# Altium integrated library lib_coilcraft.IntLib: 2 symbols
Pins are listed as number, name and electrical type; pins without a type are passive.

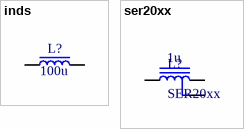
[diagram p0: symbols inds to ser20xx]

## inds
designator L?  value 100u  (hidden comment: *)
Inductor
footprint INDP120120X60N (Precision Wire Wound Inductor, 2-Leads, Body 12,00x12,00mm, IPC Medium Density)
pins: 1, 2

## ser20xx
designator L?, comment SER20xx  value 1u
Shielded Power Inductor; ComponentLink1Description: specs; ComponentLink1URL: https://www.coilcraft.com/pdfs/ser2000.pdf
footprint SER20xx
pins: 1, 2, 3